# Altium integrated library Philips Discrete BJT - Low Power.IntLib: 311 symbols (part 4 of 5)
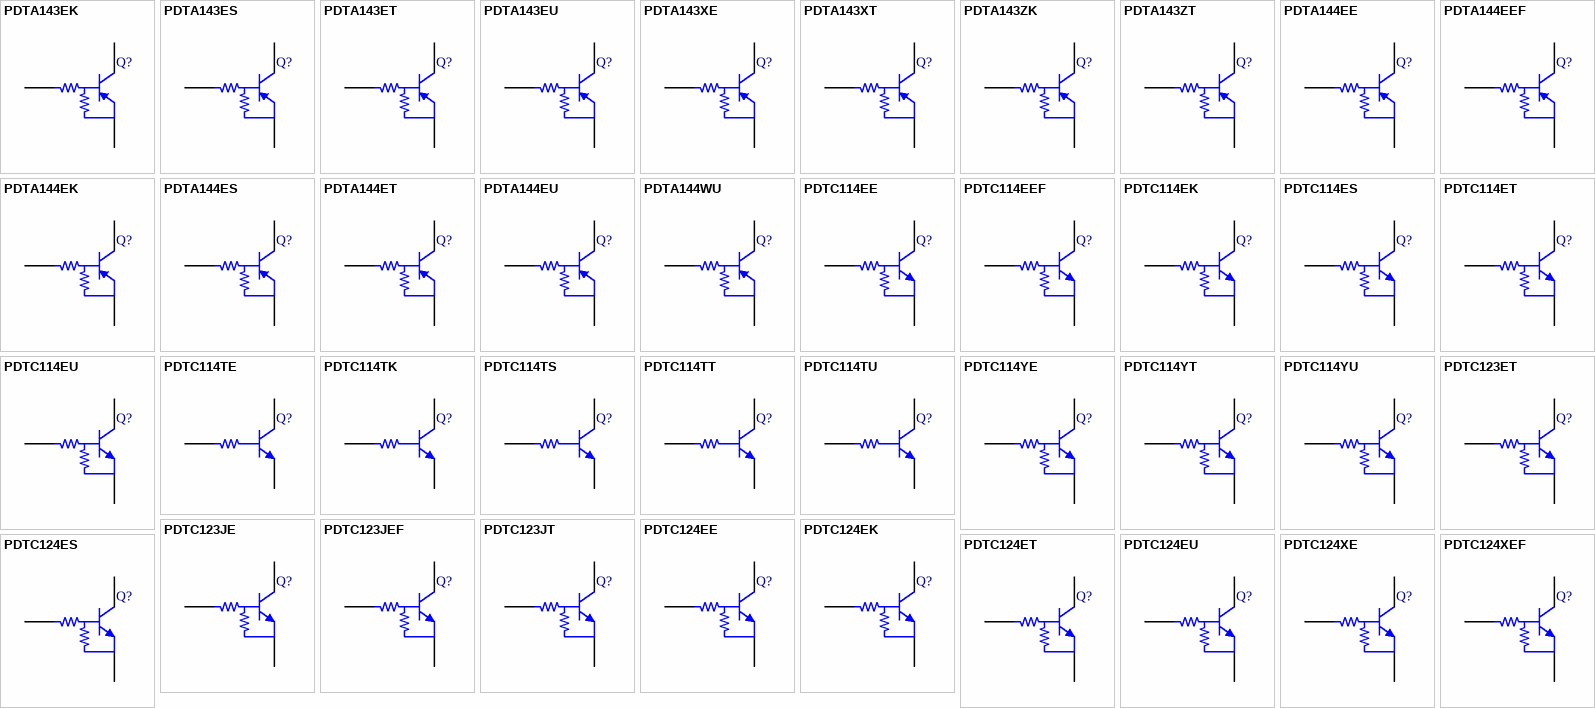
[diagram p11: symbols PDTA143EK to PDTC124XEF]

## PDTC114ET
designator Q?
NPN Resistor-equipped Transistor; Published: 17-Sep-2003; DatasheetVersion: 15-Apr-1999; PackageVersion: May-1999; PackageReference: SOT23; Publisher: Altium Limited; PackageDescription: SOT-23; 3 Leads; Body 3.0 x 2.5 mm, inc. leads (LxW max); ComponentLink1Description: Manufacturer Link; ComponentLink1URL: http://www.semiconductors.philips.com/; ComponentLink2Description: Datasheet; ComponentLink2URL: http://www.semiconductors.philips.com/acrobat/datasheets/PDTC114E_SERIES_10.pdf
footprint SOT23 (SOT-23; 3 Leads; Body 3.0 x 2.5 mm, inc. leads (LxW max))
simulation model PDTC114ET (SUBCKT)
signal-integrity model PDTC114ET
pins: 1 B, 2 E, 3 C

## PDTC114EU
designator Q?
NPN Resistor-equipped Transistor; Published: 17-Sep-2003; DatasheetVersion: 16-Apr-1999; PackageVersion: Apr-1999; PackageReference: SOT323; Publisher: Altium Limited; PackageDescription: SOT-323/SC-70; 3 Leads; Body 2.2 x 2.2 mm, inc. leads (LxW max); ComponentLink1Description: Manufacturer Link; ComponentLink1URL: http://www.semiconductors.philips.com/; ComponentLink2Description: Datasheet; ComponentLink2URL: http://www.semiconductors.philips.com/acrobat/datasheets/PDTC114E_SERIES_10.pdf
footprint SOT323 (SOT-323/SC-70; 3 Leads; Body 2.2 x 2.2 mm, inc. leads (LxW max))
signal-integrity model PDTC114EU
pins: 1 B, 2 E, 3 C

## PDTC114TE
designator Q?
NPN Resistor-equipped Transistor; Published: 17-Sep-2003; DatasheetVersion: 3-Aug-1998; PackageVersion: Apr-1999; PackageReference: SOT416; Publisher: Altium Limited; PackageDescription: SOT-416/SC-90/SC-75; 3 Leads; Body 1.8 x 1.8 mm, inc. leads (LxW max); ComponentLink1Description: Manufacturer Link; ComponentLink1URL: http://www.semiconductors.philips.com/; ComponentLink2Description: Datasheet; ComponentLink2URL: http://www.semiconductors.philips.com/acrobat/datasheets/PDTC114T_SER_7.pdf
footprint SOT416 (SOT-416/SC-90/SC-75; 3 Leads; Body 1.8 x 1.8 mm, inc. leads (LxW max))
simulation model PDTC114TE (SUBCKT)
signal-integrity model PDTC114TE
pins: 1 B, 2 E, 3 C

## PDTC114TK
designator Q?
NPN Resistor-equipped Transistor; Published: 17-Sep-2003; DatasheetVersion: 19-May-1998; PackageVersion: Apr-1999; PackageReference: SOT346; Publisher: Altium Limited; PackageDescription: SOT-23; 3 Leads; Body 3.1 x 3.0 mm, inc. leads (LxW max); Code_JEDEC: TO-236; ComponentLink1Description: Manufacturer Link; ComponentLink1URL: http://www.semiconductors.philips.com/; ComponentLink2Description: Datasheet; ComponentLink2URL: http://www.semiconductors.philips.com/acrobat/datasheets/PDTC114T_SER_7.pdf
footprint SOT346 (SOT-23; 3 Leads; Body 3.1 x 3.0 mm, inc. leads (LxW max))
simulation model PDTC114TK (SUBCKT)
signal-integrity model PDTC114TK
pins: 1 B, 2 E, 3 C

## PDTC114TS
designator Q?
NPN Resistor-equipped Transistor; Published: 17-Sep-2003; DatasheetVersion: 18-May-1998; PackageVersion: rev3, May-2000; PackageReference: SOT54; Publisher: Altium Limited; PackageDescription: TO, Flat Index; 3 In-Line, Axial Leads; Body Dia. 4.6mm; Leads 0.48 x 0.45 mm (max); Code_JEDEC: TO-92; ComponentLink1Description: Manufacturer Link; ComponentLink1URL: http://www.semiconductors.philips.com/; ComponentLink2Description: Datasheet; ComponentLink2URL: http://www.semiconductors.philips.com/acrobat/datasheets/PDTC114T_SER_7.pdf
footprint SOT54 (TO, Flat Index; 3 In-Line, Axial Leads; Body Dia. 4.6mm; Leads 0.48 x 0.45 mm (max))
simulation model PDTC114TS (SUBCKT)
signal-integrity model PDTC114TS
pins: 1 B, 2 C, 3 E

## PDTC114TT
designator Q?
NPN Resistor-equipped Transistor; Published: 17-Sep-2003; DatasheetVersion: 16-Apr-1999; PackageVersion: May-1999; PackageReference: SOT23; Publisher: Altium Limited; PackageDescription: SOT-23; 3 Leads; Body 3.0 x 2.5 mm, inc. leads (LxW max); ComponentLink1Description: Manufacturer Link; ComponentLink1URL: http://www.semiconductors.philips.com/; ComponentLink2Description: Datasheet; ComponentLink2URL: http://www.semiconductors.philips.com/acrobat/datasheets/PDTC114T_SER_7.pdf
footprint SOT23 (SOT-23; 3 Leads; Body 3.0 x 2.5 mm, inc. leads (LxW max))
simulation model PDTC114TT (SUBCKT)
signal-integrity model PDTC114TT
pins: 1 B, 2 E, 3 C

## PDTC114TU
designator Q?
NPN Resistor-equipped Transistor; Published: 17-Sep-2003; DatasheetVersion: 16-Apr-1999; PackageVersion: Apr-1999; PackageReference: SOT323; Publisher: Altium Limited; PackageDescription: SOT-323/SC-70; 3 Leads; Body 2.2 x 2.2 mm, inc. leads (LxW max); ComponentLink1Description: Manufacturer Link; ComponentLink1URL: http://www.semiconductors.philips.com/; ComponentLink2Description: Datasheet; ComponentLink2URL: http://www.semiconductors.philips.com/acrobat/datasheets/PDTC114T_SER_7.pdf
footprint SOT323 (SOT-323/SC-70; 3 Leads; Body 2.2 x 2.2 mm, inc. leads (LxW max))
simulation model PDTC114TU (SUBCKT)
signal-integrity model PDTC114TU
pins: 1 B, 2 E, 3 C

## PDTC114YE
designator Q?
NPN Resistor-equipped Transistor; Published: 17-Sep-2003; DatasheetVersion: 18-May-1999; PackageVersion: Apr-1999; PackageReference: SOT416; Publisher: Altium Limited; PackageDescription: SOT-416/SC-90/SC-75; 3 Leads; Body 1.8 x 1.8 mm, inc. leads (LxW max); ComponentLink1Description: Manufacturer Link; ComponentLink1URL: http://www.semiconductors.philips.com/; ComponentLink2Description: Datasheet; ComponentLink2URL: http://www.semiconductors.philips.com/acrobat/datasheets/PDTC114Y_SERIES_6.pdf
footprint SOT416 (SOT-416/SC-90/SC-75; 3 Leads; Body 1.8 x 1.8 mm, inc. leads (LxW max))
simulation model PDTC114YE (SUBCKT)
signal-integrity model PDTC114YE
pins: 1 B, 2 E, 3 C

## PDTC114YT
designator Q?
NPN Resistor-equipped Transistor; Published: 17-Sep-2003; DatasheetVersion: 21-May-1999; PackageVersion: May-1999; PackageReference: SOT23; Publisher: Altium Limited; PackageDescription: SOT-23; 3 Leads; Body 3.0 x 2.5 mm, inc. leads (LxW max); ComponentLink1Description: Manufacturer Link; ComponentLink1URL: http://www.semiconductors.philips.com/; ComponentLink2Description: Datasheet; ComponentLink2URL: http://www.semiconductors.philips.com/acrobat/datasheets/PDTC114Y_SERIES_6.pdf
footprint SOT23 (SOT-23; 3 Leads; Body 3.0 x 2.5 mm, inc. leads (LxW max))
simulation model PDTC114YT (SUBCKT)
signal-integrity model PDTC114YT
pins: 1 B, 2 E, 3 C

## PDTC114YU
designator Q?
NPN Resistor-equipped Transistor; Published: 17-Sep-2003; DatasheetVersion: 20-Apr-1999; PackageVersion: Apr-1999; PackageReference: SOT323; Publisher: Altium Limited; PackageDescription: SOT-323/SC-70; 3 Leads; Body 2.2 x 2.2 mm, inc. leads (LxW max); ComponentLink1Description: Manufacturer Link; ComponentLink1URL: http://www.semiconductors.philips.com/; ComponentLink2Description: Datasheet; ComponentLink2URL: http://www.semiconductors.philips.com/acrobat/datasheets/PDTC114Y_SERIES_6.pdf
footprint SOT323 (SOT-323/SC-70; 3 Leads; Body 2.2 x 2.2 mm, inc. leads (LxW max))
simulation model PDTC114YU (SUBCKT)
signal-integrity model PDTC114YU
pins: 1 B, 2 E, 3 C

## PDTC123ET
designator Q?
NPN Resistor-equipped Transistor; Published: 17-Sep-2003; DatasheetVersion: 21-May-1999; PackageVersion: May-1999; PackageReference: SOT23; Publisher: Altium Limited; PackageDescription: SOT-23; 3 Leads; Body 3.0 x 2.5 mm, inc. leads (LxW max); ComponentLink1Description: Manufacturer Link; ComponentLink1URL: http://www.semiconductors.philips.com/; ComponentLink2Description: Datasheet; ComponentLink2URL: http://www.semiconductors.philips.com/acrobat/datasheets/PDTC123E_SERIES_7.pdf
footprint SOT23 (SOT-23; 3 Leads; Body 3.0 x 2.5 mm, inc. leads (LxW max))
simulation model PDTC123ET (SUBCKT)
signal-integrity model PDTC123ET
pins: 1 B, 2 E, 3 C

## PDTC123JE
designator Q?
NPN Resistor-equipped Transistor; Published: 17-Sep-2003; DatasheetVersion: 21-May-1999; PackageVersion: Apr-1999; PackageReference: SOT416; Publisher: Altium Limited; PackageDescription: SOT-416/SC-90/SC-75; 3 Leads; Body 1.8 x 1.8 mm, inc. leads (LxW max); ComponentLink1Description: Manufacturer Link; ComponentLink1URL: http://www.semiconductors.philips.com/; ComponentLink2Description: Datasheet; ComponentLink2URL: http://www.semiconductors.philips.com/acrobat/datasheets/PDTC123J_SERIES_5.pdf
footprint SOT416 (SOT-416/SC-90/SC-75; 3 Leads; Body 1.8 x 1.8 mm, inc. leads (LxW max))
simulation model PDTC123JE (SUBCKT)
signal-integrity model PDTC123JE
pins: 1 B, 2 E, 3 C

## PDTC123JEF
designator Q?
NPN Resistor-equipped Transistor; Published: 17-Sep-2003; DatasheetVersion: 27-May-1999; PackageVersion: Oct-1998; PackageReference: SOT490; Publisher: Altium Limited; PackageDescription: SC-89; 3 Flat Leads; Body 1.6 x 1.6 x 0.7 mm, inc leads (LxWxH typ); ComponentLink1Description: Manufacturer Link; ComponentLink1URL: http://www.semiconductors.philips.com/; ComponentLink2Description: Datasheet; ComponentLink2URL: http://www.semiconductors.philips.com/acrobat/datasheets/PDTC123J_SERIES_5.pdf
footprint SOT490 (SC-89; 3 Flat Leads; Body 1.6 x 1.6 x 0.7 mm, inc leads (LxWxH typ))
simulation model PDTC123JEF (SUBCKT)
signal-integrity model PDTC123JEF
pins: 1 B, 2 E, 3 C

## PDTC123JT
designator Q?
NPN Resistor-equipped Transistor; Published: 17-Sep-2003; DatasheetVersion: 18-May-1999; PackageVersion: May-1999; PackageReference: SOT23; Publisher: Altium Limited; PackageDescription: SOT-23; 3 Leads; Body 3.0 x 2.5 mm, inc. leads (LxW max); ComponentLink1Description: Manufacturer Link; ComponentLink1URL: http://www.semiconductors.philips.com/; ComponentLink2Description: Datasheet; ComponentLink2URL: http://www.semiconductors.philips.com/acrobat/datasheets/PDTC123J_SERIES_5.pdf
footprint SOT23 (SOT-23; 3 Leads; Body 3.0 x 2.5 mm, inc. leads (LxW max))
simulation model PDTC123JT (SUBCKT)
signal-integrity model PDTC123JT
pins: 1 B, 2 E, 3 C

## PDTC124EE
designator Q?
NPN Resistor-equipped Transistor; Published: 17-Sep-2003; DatasheetVersion: 31-Jul-1998; PackageVersion: Apr-1999; PackageReference: SOT416; Publisher: Altium Limited; PackageDescription: SOT-416/SC-90/SC-75; 3 Leads; Body 1.8 x 1.8 mm, inc. leads (LxW max); ComponentLink1Description: Manufacturer Link; ComponentLink1URL: http://www.semiconductors.philips.com/; ComponentLink2Description: Datasheet; ComponentLink2URL: http://www.semiconductors.philips.com/acrobat/datasheets/PDTC124E_SERIES_7.pdf
footprint SOT416 (SOT-416/SC-90/SC-75; 3 Leads; Body 1.8 x 1.8 mm, inc. leads (LxW max))
simulation model PDTC124EE (SUBCKT)
signal-integrity model PDTC124EE
pins: 1 B, 2 E, 3 C

## PDTC124EK
designator Q?
NPN Resistor-equipped Transistor; Published: 17-Sep-2003; DatasheetVersion: 8-May-1998; PackageVersion: Apr-1999; PackageReference: SOT346; Publisher: Altium Limited; PackageDescription: SOT-23; 3 Leads; Body 3.1 x 3.0 mm, inc. leads (LxW max); Code_JEDEC: TO-236; ComponentLink1Description: Manufacturer Link; ComponentLink1URL: http://www.semiconductors.philips.com/; ComponentLink2Description: Datasheet; ComponentLink2URL: http://www.semiconductors.philips.com/acrobat/datasheets/PDTC124E_SERIES_7.pdf
footprint SOT346 (SOT-23; 3 Leads; Body 3.1 x 3.0 mm, inc. leads (LxW max))
signal-integrity model PDTC124EK
pins: 1 B, 2 E, 3 C

## PDTC124ES
designator Q?
NPN Resistor-equipped Transistor; Published: 17-Sep-2003; DatasheetVersion: 8-May-1998; PackageVersion: rev3, May-2000; PackageReference: SOT54; Publisher: Altium Limited; PackageDescription: TO, Flat Index; 3 In-Line, Axial Leads; Body Dia. 4.6mm; Leads 0.48 x 0.45 mm (max); Code_JEDEC: TO-92; ComponentLink1Description: Manufacturer Link; ComponentLink1URL: http://www.semiconductors.philips.com/; ComponentLink2Description: Datasheet; ComponentLink2URL: http://www.semiconductors.philips.com/acrobat/datasheets/PDTC124E_SERIES_7.pdf
footprint SOT54 (TO, Flat Index; 3 In-Line, Axial Leads; Body Dia. 4.6mm; Leads 0.48 x 0.45 mm (max))
simulation model PDTC124ES (SUBCKT)
signal-integrity model PDTC124ES
pins: 1 B, 2 C, 3 E

## PDTC124ET
designator Q?
NPN Resistor-equipped Transistor; Published: 17-Sep-2003; DatasheetVersion: 16-Apr-1999; PackageVersion: May-1999; PackageReference: SOT23; Publisher: Altium Limited; PackageDescription: SOT-23; 3 Leads; Body 3.0 x 2.5 mm, inc. leads (LxW max); ComponentLink1Description: Manufacturer Link; ComponentLink1URL: http://www.semiconductors.philips.com/; ComponentLink2Description: Datasheet; ComponentLink2URL: http://www.semiconductors.philips.com/acrobat/datasheets/PDTC124E_SERIES_7.pdf
footprint SOT23 (SOT-23; 3 Leads; Body 3.0 x 2.5 mm, inc. leads (LxW max))
simulation model PDTC124ET (SUBCKT)
signal-integrity model PDTC124ET
pins: 1 B, 2 E, 3 C

## PDTC124EU
designator Q?
NPN Resistor-equipped Transistor; Published: 17-Sep-2003; DatasheetVersion: 16-Apr-1999; PackageVersion: Apr-1999; PackageReference: SOT323; Publisher: Altium Limited; PackageDescription: SOT-323/SC-70; 3 Leads; Body 2.2 x 2.2 mm, inc. leads (LxW max); ComponentLink1Description: Manufacturer Link; ComponentLink1URL: http://www.semiconductors.philips.com/; ComponentLink2Description: Datasheet; ComponentLink2URL: http://www.semiconductors.philips.com/acrobat/datasheets/PDTC124E_SERIES_7.pdf
footprint SOT323 (SOT-323/SC-70; 3 Leads; Body 2.2 x 2.2 mm, inc. leads (LxW max))
signal-integrity model PDTC124EU
pins: 1 B, 2 E, 3 C

## PDTC124XE
designator Q?
NPN Resistor-equipped Transistor; Published: 17-Sep-2003; DatasheetVersion: 18-May-1999; PackageVersion: Apr-1999; PackageReference: SOT416; Publisher: Altium Limited; PackageDescription: SOT-416/SC-90/SC-75; 3 Leads; Body 1.8 x 1.8 mm, inc. leads (LxW max); ComponentLink1Description: Manufacturer Link; ComponentLink1URL: http://www.semiconductors.philips.com/; ComponentLink2Description: Datasheet; ComponentLink2URL: http://www.semiconductors.philips.com/acrobat/datasheets/PDTC124X_SERIES_5.pdf
footprint SOT416 (SOT-416/SC-90/SC-75; 3 Leads; Body 1.8 x 1.8 mm, inc. leads (LxW max))
simulation model PDTC124XE (SUBCKT)
signal-integrity model PDTC124XE
pins: 1 B, 2 E, 3 C

## PDTC124XEF
designator Q?
NPN Resistor-equipped Transistor; Published: 17-Sep-2003; DatasheetVersion: 18-May-1999; PackageVersion: Oct-1998; PackageReference: SOT490; Publisher: Altium Limited; PackageDescription: SC-89; 3 Flat Leads; Body 1.6 x 1.6 x 0.7 mm, inc leads (LxWxH typ); ComponentLink1Description: Manufacturer Link; ComponentLink1URL: http://www.semiconductors.philips.com/; ComponentLink2Description: Datasheet; ComponentLink2URL: http://www.semiconductors.philips.com/acrobat/datasheets/PDTC124X_SERIES_5.pdf
footprint SOT490 (SC-89; 3 Flat Leads; Body 1.6 x 1.6 x 0.7 mm, inc leads (LxWxH typ))
simulation model PDTC124XEF (SUBCKT)
signal-integrity model PDTC124XEF
pins: 1 B, 2 E, 3 C

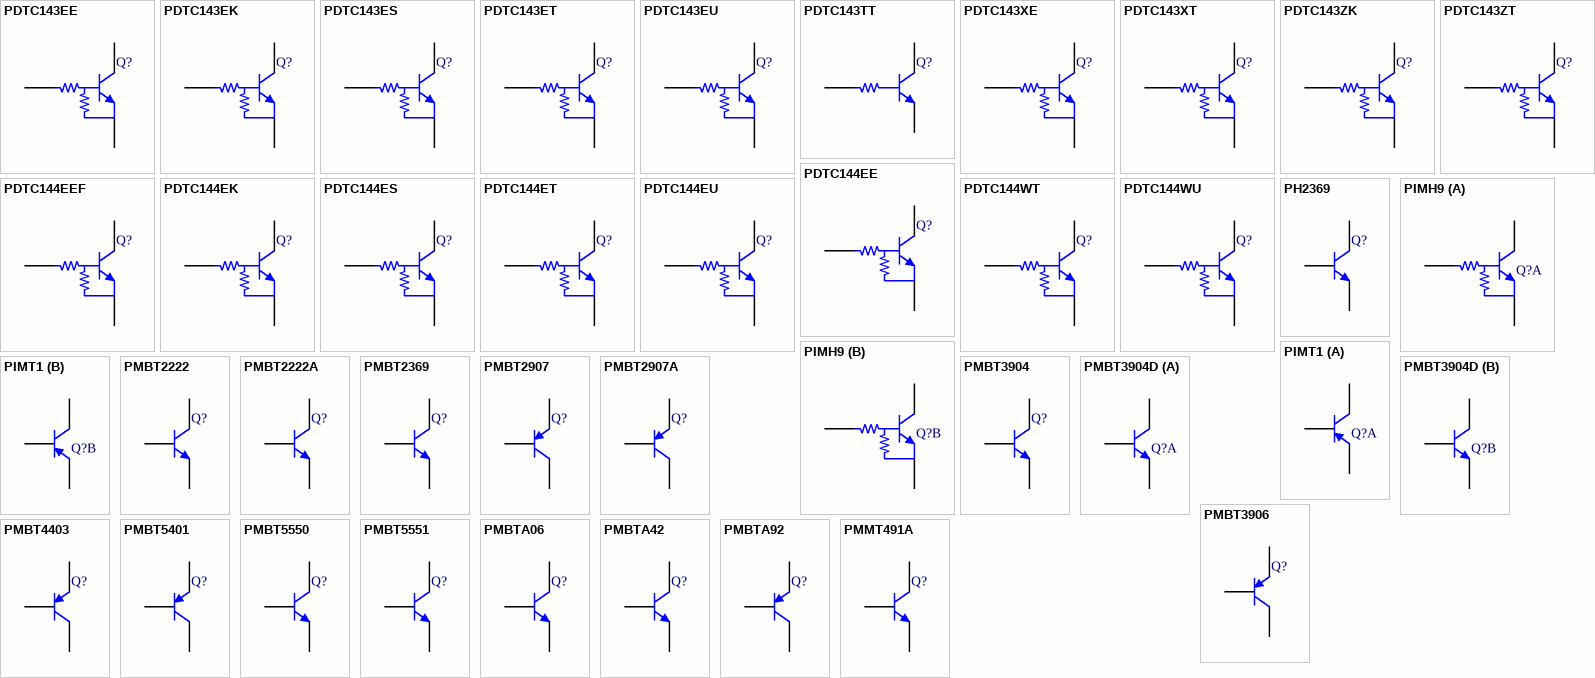
[diagram p6: symbols PDTC143EE to PMMT491A]

## PDTC143EE
designator Q?
NPN Resistor-equipped Transistor; Published: 17-Sep-2003; DatasheetVersion: 31-Jul-1998; PackageVersion: Apr-1999; PackageReference: SOT416; Publisher: Altium Limited; PackageDescription: SOT-416/SC-90/SC-75; 3 Leads; Body 1.8 x 1.8 mm, inc. leads (LxW max); ComponentLink1Description: Manufacturer Link; ComponentLink1URL: http://www.semiconductors.philips.com/; ComponentLink2Description: Datasheet; ComponentLink2URL: http://www.semiconductors.philips.com/acrobat/datasheets/PDTC143E_SERIES_9.pdf
footprint SOT416 (SOT-416/SC-90/SC-75; 3 Leads; Body 1.8 x 1.8 mm, inc. leads (LxW max))
simulation model PDTC143EE (SUBCKT)
signal-integrity model PDTC143EE
pins: 1 B, 2 E, 3 C

## PDTC143EK
designator Q?
NPN Resistor-equipped Transistor; Published: 17-Sep-2003; DatasheetVersion: 18-May-1998; PackageVersion: Apr-1999; PackageReference: SOT346; Publisher: Altium Limited; PackageDescription: SOT-23; 3 Leads; Body 3.1 x 3.0 mm, inc. leads (LxW max); Code_JEDEC: TO-236; ComponentLink1Description: Manufacturer Link; ComponentLink1URL: http://www.semiconductors.philips.com/; ComponentLink2Description: Datasheet; ComponentLink2URL: http://www.semiconductors.philips.com/acrobat/datasheets/PDTC143E_SERIES_9.pdf
footprint SOT346 (SOT-23; 3 Leads; Body 3.1 x 3.0 mm, inc. leads (LxW max))
simulation model PDTC143EK (SUBCKT)
signal-integrity model PDTC143EK
pins: 1 B, 2 E, 3 C

## PDTC143ES
designator Q?
NPN Resistor-equipped Transistor; Published: 17-Sep-2003; DatasheetVersion: 20-May-1998; PackageVersion: rev3, May-2000; PackageReference: SOT54; Publisher: Altium Limited; PackageDescription: TO, Flat Index; 3 In-Line, Axial Leads; Body Dia. 4.6mm; Leads 0.48 x 0.45 mm (max); Code_JEDEC: TO-92; ComponentLink1Description: Manufacturer Link; ComponentLink1URL: http://www.semiconductors.philips.com/; ComponentLink2Description: Datasheet; ComponentLink2URL: http://www.semiconductors.philips.com/acrobat/datasheets/PDTC143E_SERIES_9.pdf
footprint SOT54 (TO, Flat Index; 3 In-Line, Axial Leads; Body Dia. 4.6mm; Leads 0.48 x 0.45 mm (max))
simulation model PDTC143ES (SUBCKT)
signal-integrity model PDTC143ES
pins: 1 B, 2 C, 3 E

## PDTC143ET
designator Q?
NPN Resistor-equipped Transistor; Published: 17-Sep-2003; DatasheetVersion: 15-Apr-1999; PackageVersion: May-1999; PackageReference: SOT23; Publisher: Altium Limited; PackageDescription: SOT-23; 3 Leads; Body 3.0 x 2.5 mm, inc. leads (LxW max); ComponentLink1Description: Manufacturer Link; ComponentLink1URL: http://www.semiconductors.philips.com/; ComponentLink2Description: Datasheet; ComponentLink2URL: http://www.semiconductors.philips.com/acrobat/datasheets/PDTC143E_SERIES_9.pdf
footprint SOT23 (SOT-23; 3 Leads; Body 3.0 x 2.5 mm, inc. leads (LxW max))
simulation model PDTC143ET (SUBCKT)
signal-integrity model PDTC143ET
pins: 1 B, 2 E, 3 C

## PDTC143EU
designator Q?
NPN Resistor-equipped Transistor; Published: 17-Sep-2003; DatasheetVersion: 14-Apr-1999; PackageVersion: Apr-1999; PackageReference: SOT323; Publisher: Altium Limited; PackageDescription: SOT-323/SC-70; 3 Leads; Body 2.2 x 2.2 mm, inc. leads (LxW max); ComponentLink1Description: Manufacturer Link; ComponentLink1URL: http://www.semiconductors.philips.com/; ComponentLink2Description: Datasheet; ComponentLink2URL: http://www.semiconductors.philips.com/acrobat/datasheets/PDTC143E_SERIES_9.pdf
footprint SOT323 (SOT-323/SC-70; 3 Leads; Body 2.2 x 2.2 mm, inc. leads (LxW max))
simulation model PDTC143EU (SUBCKT)
signal-integrity model PDTC143EU
pins: 1 B, 2 E, 3 C

## PDTC143TT
designator Q?
NPN Resistor-equipped Transistor; Published: 17-Sep-2003; DatasheetVersion: 21-May-1999; PackageVersion: May-1999; PackageReference: SOT23; Publisher: Altium Limited; PackageDescription: SOT-23; 3 Leads; Body 3.0 x 2.5 mm, inc. leads (LxW max); ComponentLink1Description: Manufacturer Link; ComponentLink1URL: http://www.semiconductors.philips.com/; ComponentLink2Description: Datasheet; ComponentLink2URL: http://www.semiconductors.philips.com/acrobat/datasheets/PDTC143T_SERIES_6.pdf
footprint SOT23 (SOT-23; 3 Leads; Body 3.0 x 2.5 mm, inc. leads (LxW max))
simulation model PDTC143TT (SUBCKT)
signal-integrity model PDTC143TT
pins: 1 B, 2 E, 3 C

## PDTC143XE
designator Q?
NPN Resistor-equipped Transistor; Published: 17-Sep-2003; DatasheetVersion: 21-May-1999; PackageVersion: Apr-1999; PackageReference: SOT416; Publisher: Altium Limited; PackageDescription: SOT-416/SC-90/SC-75; 3 Leads; Body 1.8 x 1.8 mm, inc. leads (LxW max); ComponentLink1Description: Manufacturer Link; ComponentLink1URL: http://www.semiconductors.philips.com/; ComponentLink2Description: Datasheet; ComponentLink2URL: http://www.semiconductors.philips.com/acrobat/datasheets/PDTC143X_SERIES_8.pdf
footprint SOT416 (SOT-416/SC-90/SC-75; 3 Leads; Body 1.8 x 1.8 mm, inc. leads (LxW max))
simulation model PDTC143XE (SUBCKT)
signal-integrity model PDTC143XE
pins: 1 B, 2 E, 3 C

## PDTC143XT
designator Q?
NPN Resistor-equipped Transistor; Published: 17-Sep-2003; DatasheetVersion: 20-Apr-1999; PackageVersion: May-1999; PackageReference: SOT23; Publisher: Altium Limited; PackageDescription: SOT-23; 3 Leads; Body 3.0 x 2.5 mm, inc. leads (LxW max); ComponentLink1Description: Manufacturer Link; ComponentLink1URL: http://www.semiconductors.philips.com/; ComponentLink2Description: Datasheet; ComponentLink2URL: http://www.semiconductors.philips.com/acrobat/datasheets/PDTC143X_SERIES_8.pdf
footprint SOT23 (SOT-23; 3 Leads; Body 3.0 x 2.5 mm, inc. leads (LxW max))
simulation model PDTC143XT (SUBCKT)
signal-integrity model PDTC143XT
pins: 1 B, 2 E, 3 C

## PDTC143ZK
designator Q?
NPN Resistor-equipped Transistor; Published: 17-Sep-2003; DatasheetVersion: 21-May-1999; PackageVersion: Apr-1999; PackageReference: SOT346; Publisher: Altium Limited; PackageDescription: SOT-23; 3 Leads; Body 3.1 x 3.0 mm, inc. leads (LxW max); Code_JEDEC: TO-236; ComponentLink1Description: Manufacturer Link; ComponentLink1URL: http://www.semiconductors.philips.com/; ComponentLink2Description: Datasheet; ComponentLink2URL: http://www.semiconductors.philips.com/acrobat/datasheets/PDTC143Z_SERIES_7.pdf
footprint SOT346 (SOT-23; 3 Leads; Body 3.1 x 3.0 mm, inc. leads (LxW max))
simulation model PDTC143ZK (SUBCKT)
signal-integrity model PDTC143ZK
pins: 1 B, 2 E, 3 C

## PDTC143ZT
designator Q?
NPN Resistor-equipped Transistor; Published: 17-Sep-2003; DatasheetVersion: 21-May-1999; PackageVersion: May-1999; PackageReference: SOT23; Publisher: Altium Limited; PackageDescription: SOT-23; 3 Leads; Body 3.0 x 2.5 mm, inc. leads (LxW max); ComponentLink1Description: Manufacturer Link; ComponentLink1URL: http://www.semiconductors.philips.com/; ComponentLink2Description: Datasheet; ComponentLink2URL: http://www.semiconductors.philips.com/acrobat/datasheets/PDTC143Z_SERIES_7.pdf
footprint SOT23 (SOT-23; 3 Leads; Body 3.0 x 2.5 mm, inc. leads (LxW max))
simulation model PDTC143ZT (SUBCKT)
signal-integrity model PDTC143ZT
pins: 1 B, 2 E, 3 C

## PDTC144EE
designator Q?
NPN Resistor-equipped Transistor; Published: 17-Sep-2003; DatasheetVersion: 16-Jul-1998; PackageVersion: Apr-1999; PackageReference: SOT416; Publisher: Altium Limited; PackageDescription: SOT-416/SC-90/SC-75; 3 Leads; Body 1.8 x 1.8 mm, inc. leads (LxW max); ComponentLink1Description: Manufacturer Link; ComponentLink1URL: http://www.semiconductors.philips.com/; ComponentLink2Description: Datasheet; ComponentLink2URL: http://www.semiconductors.philips.com/acrobat/datasheets/PDTC144E_SERIES_8.pdf
footprint SOT416 (SOT-416/SC-90/SC-75; 3 Leads; Body 1.8 x 1.8 mm, inc. leads (LxW max))
simulation model PDTC144EE (SUBCKT)
signal-integrity model PDTC144EE
pins: 1 B, 2 E, 3 C

## PDTC144EEF
designator Q?
NPN Resistor-equipped Transistor; Published: 17-Sep-2003; DatasheetVersion: 27-May-1999; PackageVersion: Oct-1998; PackageReference: SOT490; Publisher: Altium Limited; PackageDescription: SC-89; 3 Flat Leads; Body 1.6 x 1.6 x 0.7 mm, inc leads (LxWxH typ); ComponentLink1Description: Manufacturer Link; ComponentLink1URL: http://www.semiconductors.philips.com/; ComponentLink2Description: Datasheet; ComponentLink2URL: http://www.semiconductors.philips.com/acrobat/datasheets/PDTC144E_SERIES_8.pdf
footprint SOT490 (SC-89; 3 Flat Leads; Body 1.6 x 1.6 x 0.7 mm, inc leads (LxWxH typ))
simulation model PDTC144EEF (SUBCKT)
signal-integrity model PDTC144EEF
pins: 1 B, 2 E, 3 C

## PDTC144EK
designator Q?
NPN Resistor-equipped Transistor; Published: 17-Sep-2003; DatasheetVersion: 19-May-1998; PackageVersion: Apr-1999; PackageReference: SOT346; Publisher: Altium Limited; PackageDescription: SOT-23; 3 Leads; Body 3.1 x 3.0 mm, inc. leads (LxW max); Code_JEDEC: TO-236; ComponentLink1Description: Manufacturer Link; ComponentLink1URL: http://www.semiconductors.philips.com/; ComponentLink2Description: Datasheet; ComponentLink2URL: http://www.semiconductors.philips.com/acrobat/datasheets/PDTC144E_SERIES_8.pdf
footprint SOT346 (SOT-23; 3 Leads; Body 3.1 x 3.0 mm, inc. leads (LxW max))
simulation model PDTC144EK (SUBCKT)
signal-integrity model PDTC144EK
pins: 1 B, 2 E, 3 C

## PDTC144ES
designator Q?
NPN Resistor-equipped Transistor; Published: 17-Sep-2003; DatasheetVersion: 19-May-1998; PackageVersion: rev3, May-2000; PackageReference: SOT54; Publisher: Altium Limited; PackageDescription: TO, Flat Index; 3 In-Line, Axial Leads; Body Dia. 4.6mm; Leads 0.48 x 0.45 mm (max); Code_JEDEC: TO-92; ComponentLink1Description: Manufacturer Link; ComponentLink1URL: http://www.semiconductors.philips.com/; ComponentLink2Description: Datasheet; ComponentLink2URL: http://www.semiconductors.philips.com/acrobat/datasheets/PDTC144E_SERIES_8.pdf
footprint SOT54 (TO, Flat Index; 3 In-Line, Axial Leads; Body Dia. 4.6mm; Leads 0.48 x 0.45 mm (max))
simulation model PDTC144ES (SUBCKT)
signal-integrity model PDTC144ES
pins: 1 B, 2 C, 3 E

## PDTC144ET
designator Q?
NPN Resistor-equipped Transistor; Published: 17-Sep-2003; DatasheetVersion: 16-Apr-1999; PackageVersion: May-1999; PackageReference: SOT23; Publisher: Altium Limited; PackageDescription: SOT-23; 3 Leads; Body 3.0 x 2.5 mm, inc. leads (LxW max); ComponentLink1Description: Manufacturer Link; ComponentLink1URL: http://www.semiconductors.philips.com/; ComponentLink2Description: Datasheet; ComponentLink2URL: http://www.semiconductors.philips.com/acrobat/datasheets/PDTC144E_SERIES_8.pdf
footprint SOT23 (SOT-23; 3 Leads; Body 3.0 x 2.5 mm, inc. leads (LxW max))
simulation model PDTC144ET (SUBCKT)
signal-integrity model PDTC144ET
pins: 1 B, 2 E, 3 C

## PDTC144EU
designator Q?
NPN Resistor-equipped Transistor; Published: 17-Sep-2003; DatasheetVersion: 16-Apr-1999; PackageVersion: Apr-1999; PackageReference: SOT323; Publisher: Altium Limited; PackageDescription: SOT-323/SC-70; 3 Leads; Body 2.2 x 2.2 mm, inc. leads (LxW max); ComponentLink1Description: Manufacturer Link; ComponentLink1URL: http://www.semiconductors.philips.com/; ComponentLink2Description: Datasheet; ComponentLink2URL: http://www.semiconductors.philips.com/acrobat/datasheets/PDTC144E_SERIES_8.pdf
footprint SOT323 (SOT-323/SC-70; 3 Leads; Body 2.2 x 2.2 mm, inc. leads (LxW max))
simulation model PDTC144EU (SUBCKT)
signal-integrity model PDTC144EU
pins: 1 B, 2 E, 3 C

## PDTC144WT
designator Q?
NPN Resistor-equipped Transistor; Published: 17-Sep-2003; DatasheetVersion: 25-May-1999; PackageVersion: May-1999; PackageReference: SOT23; Publisher: Altium Limited; PackageDescription: SOT-23; 3 Leads; Body 3.0 x 2.5 mm, inc. leads (LxW max); ComponentLink1Description: Manufacturer Link; ComponentLink1URL: http://www.semiconductors.philips.com/; ComponentLink2Description: Datasheet; ComponentLink2URL: http://www.semiconductors.philips.com/acrobat/datasheets/PDTC144W_SERIES_7.pdf
footprint SOT23 (SOT-23; 3 Leads; Body 3.0 x 2.5 mm, inc. leads (LxW max))
simulation model PDTC144WT (SUBCKT)
signal-integrity model PDTC144WT
pins: 1 B, 2 E, 3 C

## PDTC144WU
designator Q?
NPN Resistor-equipped Transistor; Published: 17-Sep-2003; DatasheetVersion: 25-May-1999; PackageVersion: Apr-1999; PackageReference: SOT323; Publisher: Altium Limited; PackageDescription: SOT-323/SC-70; 3 Leads; Body 2.2 x 2.2 mm, inc. leads (LxW max); ComponentLink1Description: Manufacturer Link; ComponentLink1URL: http://www.semiconductors.philips.com/; ComponentLink2Description: Datasheet; ComponentLink2URL: http://www.semiconductors.philips.com/acrobat/datasheets/PDTC144W_SERIES_7.pdf
footprint SOT323 (SOT-323/SC-70; 3 Leads; Body 2.2 x 2.2 mm, inc. leads (LxW max))
simulation model PDTC144WU (SUBCKT)
signal-integrity model PDTC144WU
pins: 1 B, 2 E, 3 C

## PH2369
designator Q?
NPN Switching Transistor; Published: 17-Sep-2003; DatasheetVersion: 27-Apr-1999; PackageVersion: rev3, May-2000; PackageReference: SOT54; Publisher: Altium Limited; PackageDescription: TO, Flat Index; 3 In-Line, Axial Leads; Body Dia. 4.6mm; Leads 0.48 x 0.45 mm (max); Code_JEDEC: TO-92; ComponentLink1Description: Manufacturer Link; ComponentLink1URL: http://www.semiconductors.philips.com/; ComponentLink2Description: Datasheet; ComponentLink2URL: http://www.semiconductors.philips.com/acrobat/datasheets/PH2369_4.pdf
footprint SOT54 (TO, Flat Index; 3 In-Line, Axial Leads; Body Dia. 4.6mm; Leads 0.48 x 0.45 mm (max))
simulation model PH2369 (SUBCKT)
signal-integrity model PH2369
pins: 1 E, 2 B, 3 C

## PIMH9
designator Q?
NPN Resistor-equipped Double Transistor; R1 = 10kOhm, R2 = 47kOhm; Published: 17-Sep-2003; DatasheetVersion: 13-Sep-2001; PackageVersion: May-2001; PackageReference: SOT457; Publisher: Altium Limited; PackageDescription: SOT-457/SC-74; 6 Leads; Body 3.1 x 3 mm, inc. leads (LxW max); ComponentLink1Description: Manufacturer Link; ComponentLink1URL: http://www.semiconductors.philips.com/; ComponentLink2Description: Datasheet; ComponentLink2URL: http://www.semiconductors.philips.com/acrobat/datasheets/PIMH9_PUMH9_PEMH9_4.pdf
footprint SOT457 (SOT-457/SC-74; 6 Leads; Body 3.1 x 3 mm, inc. leads (LxW max))
signal-integrity model PIMH9
part A pins: 1 E, 2 B, 6 C
part B pins: 3 C, 4 E, 5 B

## PIMT1
designator Q?
PNP General-purpose Double Transistor; Published: 17-Sep-2003; DatasheetVersion: 22-Oct-2001; PackageVersion: May-2001; PackageReference: SOT457; Publisher: Altium Limited; PackageDescription: SOT-457/SC-74; 6 Leads; Body 3.1 x 3 mm, inc. leads (LxW max); ComponentLink1Description: Manufacturer Link; ComponentLink1URL: http://www.semiconductors.philips.com/; ComponentLink2Description: Datasheet; ComponentLink2URL: http://www.semiconductors.philips.com/acrobat/datasheets/PIMT1_1.pdf
footprint SOT457 (SOT-457/SC-74; 6 Leads; Body 3.1 x 3 mm, inc. leads (LxW max))
simulation model PIMT1 (PNP)
signal-integrity model PIMT1
part A pins: 1 E, 2 B, 6 C
part B pins: 3 C, 4 E, 5 B

## PMBT2222
designator Q?
NPN Switching Transistor; Published: 17-Sep-2003; DatasheetVersion: 27-Apr-1999; PackageVersion: May-1999; PackageReference: SOT23; Publisher: Altium Limited; PackageDescription: SOT-23; 3 Leads; Body 3.0 x 2.5 mm, inc. leads (LxW max); ComponentLink1Description: Manufacturer Link; ComponentLink1URL: http://www.semiconductors.philips.com/; ComponentLink2Description: Datasheet; ComponentLink2URL: http://www.semiconductors.philips.com/acrobat/datasheets/PMBT2222_2222A_5.pdf
footprint SOT23 (SOT-23; 3 Leads; Body 3.0 x 2.5 mm, inc. leads (LxW max))
simulation model QPMBT2222 (NPN)
signal-integrity model PMBT2222
pins: 1 B, 2 E, 3 C

## PMBT2222A
designator Q?
NPN Switching Transistor; Published: 17-Sep-2003; DatasheetVersion: 27-Apr-1999; PackageVersion: May-1999; PackageReference: SOT23; Publisher: Altium Limited; PackageDescription: SOT-23; 3 Leads; Body 3.0 x 2.5 mm, inc. leads (LxW max); ComponentLink1Description: Manufacturer Link; ComponentLink1URL: http://www.semiconductors.philips.com/; ComponentLink2Description: Datasheet; ComponentLink2URL: http://www.semiconductors.philips.com/acrobat/datasheets/PMBT2222_2222A_5.pdf
footprint SOT23 (SOT-23; 3 Leads; Body 3.0 x 2.5 mm, inc. leads (LxW max))
simulation model QPMBT2222A (NPN)
signal-integrity model PMBT2222A
pins: 1 B, 2 E, 3 C

## PMBT2369
designator Q?
NPN Switching Transistor; Published: 17-Sep-2003; DatasheetVersion: 27-Apr-1999; PackageVersion: May-1999; PackageReference: SOT23; Publisher: Altium Limited; PackageDescription: SOT-23; 3 Leads; Body 3.0 x 2.5 mm, inc. leads (LxW max); ComponentLink1Description: Manufacturer Link; ComponentLink1URL: http://www.semiconductors.philips.com/; ComponentLink2Description: Datasheet; ComponentLink2URL: http://www.semiconductors.philips.com/acrobat/datasheets/PMBT2369_4.pdf
footprint SOT23 (SOT-23; 3 Leads; Body 3.0 x 2.5 mm, inc. leads (LxW max))
simulation model PMBT2369 (SUBCKT)
signal-integrity model PMBT2369
pins: 1 B, 2 E, 3 C

## PMBT2907
designator Q?
PNP Switching Transistor; Published: 17-Sep-2003; DatasheetVersion: 27-Apr-1999; PackageVersion: May-1999; PackageReference: SOT23; Publisher: Altium Limited; PackageDescription: SOT-23; 3 Leads; Body 3.0 x 2.5 mm, inc. leads (LxW max); ComponentLink1Description: Manufacturer Link; ComponentLink1URL: http://www.semiconductors.philips.com/; ComponentLink2Description: Datasheet; ComponentLink2URL: http://www.semiconductors.philips.com/acrobat/datasheets/PMBT2907_PMBT2907A_5.pdf
footprint SOT23 (SOT-23; 3 Leads; Body 3.0 x 2.5 mm, inc. leads (LxW max))
simulation model QPMBT2907 (PNP)
signal-integrity model PMBT2907
pins: 1 B, 2 E, 3 C

## PMBT2907A
designator Q?
PNP Switching Transistor; Published: 17-Sep-2003; DatasheetVersion: 27-Apr-1999; PackageVersion: May-1999; PackageReference: SOT23; Publisher: Altium Limited; PackageDescription: SOT-23; 3 Leads; Body 3.0 x 2.5 mm, inc. leads (LxW max); ComponentLink1Description: Manufacturer Link; ComponentLink1URL: http://www.semiconductors.philips.com/; ComponentLink2Description: Datasheet; ComponentLink2URL: http://www.semiconductors.philips.com/acrobat/datasheets/PMBT2907_PMBT2907A_5.pdf
footprint SOT23 (SOT-23; 3 Leads; Body 3.0 x 2.5 mm, inc. leads (LxW max))
simulation model QPMBT2907A (PNP)
signal-integrity model PMBT2907A
pins: 1 B, 2 E, 3 C

## PMBT3904
designator Q?
NPN Switching Transistor; Published: 17-Sep-2003; DatasheetVersion: 27-Apr-1999; PackageVersion: May-1999; PackageReference: SOT23; Publisher: Altium Limited; PackageDescription: SOT-23; 3 Leads; Body 3.0 x 2.5 mm, inc. leads (LxW max); ComponentLink1Description: Manufacturer Link; ComponentLink1URL: http://www.semiconductors.philips.com/; ComponentLink2Description: Datasheet; ComponentLink2URL: http://www.semiconductors.philips.com/acrobat/datasheets/PMBT3904_4.pdf
footprint SOT23 (SOT-23; 3 Leads; Body 3.0 x 2.5 mm, inc. leads (LxW max))
simulation model QPMBT3904 (NPN)
signal-integrity model PMBT3904
pins: 1 B, 2 E, 3 C

## PMBT3904D
designator Q?
NPN Switching Double Transistor; Published: 17-Sep-2003; DatasheetVersion: 15-Dec-1999; PackageVersion: May-2001; PackageReference: SOT457; Publisher: Altium Limited; PackageDescription: SOT-457/SC-74; 6 Leads; Body 3.1 x 3 mm, inc. leads (LxW max); ComponentLink1Description: Manufacturer Link; ComponentLink1URL: http://www.semiconductors.philips.com/; ComponentLink2Description: Datasheet; ComponentLink2URL: http://www.semiconductors.philips.com/acrobat/datasheets/PMBT3904D_1.pdf
footprint SOT457 (SOT-457/SC-74; 6 Leads; Body 3.1 x 3 mm, inc. leads (LxW max))
simulation model PMBT3904D (NPN)
signal-integrity model PMBT3904D
part A pins: 1 E, 2 B, 6 C
part B pins: 3 C, 4 E, 5 B

## PMBT3906
designator Q?
PNP Switching Transistor; Published: 17-Sep-2003; DatasheetVersion: 27-Apr-1999; PackageVersion: May-1999; PackageReference: SOT23; Publisher: Altium Limited; PackageDescription: SOT-23; 3 Leads; Body 3.0 x 2.5 mm, inc. leads (LxW max); ComponentLink1Description: Manufacturer Link; ComponentLink1URL: http://www.semiconductors.philips.com/; ComponentLink2Description: Datasheet; ComponentLink2URL: http://www.semiconductors.philips.com/acrobat/datasheets/PMBT3906_4.pdf
footprint SOT23 (SOT-23; 3 Leads; Body 3.0 x 2.5 mm, inc. leads (LxW max))
simulation model QPMBT3906 (PNP)
signal-integrity model PMBT3906
pins: 1 B, 2 E, 3 C

## PMBT4403
designator Q?
PNP Switching Transistor; Published: 17-Sep-2003; DatasheetVersion: 15-Apr-1999; PackageVersion: May-1999; PackageReference: SOT23; Publisher: Altium Limited; PackageDescription: SOT-23; 3 Leads; Body 3.0 x 2.5 mm, inc. leads (LxW max); ComponentLink1Description: Manufacturer Link; ComponentLink1URL: http://www.semiconductors.philips.com/; ComponentLink2Description: Datasheet; ComponentLink2URL: http://www.semiconductors.philips.com/acrobat/datasheets/PMBT4403_4.pdf
footprint SOT23 (SOT-23; 3 Leads; Body 3.0 x 2.5 mm, inc. leads (LxW max))
simulation model QPMBT4403 (PNP)
signal-integrity model PMBT4403
pins: 1 B, 2 E, 3 C

## PMBT5401
designator Q?
PNP High-voltage Transistor; Published: 17-Sep-2003; DatasheetVersion: 15-Apr-1999; PackageVersion: May-1999; PackageReference: SOT23; Publisher: Altium Limited; PackageDescription: SOT-23; 3 Leads; Body 3.0 x 2.5 mm, inc. leads (LxW max); ComponentLink1Description: Manufacturer Link; ComponentLink1URL: http://www.semiconductors.philips.com/; ComponentLink2Description: Datasheet; ComponentLink2URL: http://www.semiconductors.philips.com/acrobat/datasheets/PMBT5401_4.pdf
footprint SOT23 (SOT-23; 3 Leads; Body 3.0 x 2.5 mm, inc. leads (LxW max))
simulation model QPMBT5401 (PNP)
signal-integrity model PMBT5401
pins: 1 B, 2 E, 3 C

## PMBT5550
designator Q?
NPN High-voltage Transistor; Published: 17-Sep-2003; DatasheetVersion: 15-Apr-1999; PackageVersion: May-1999; PackageReference: SOT23; Publisher: Altium Limited; PackageDescription: SOT-23; 3 Leads; Body 3.0 x 2.5 mm, inc. leads (LxW max); ComponentLink1Description: Manufacturer Link; ComponentLink1URL: http://www.semiconductors.philips.com/; ComponentLink2Description: Datasheet; ComponentLink2URL: http://www.semiconductors.philips.com/acrobat/datasheets/PMBT5550_4.pdf
footprint SOT23 (SOT-23; 3 Leads; Body 3.0 x 2.5 mm, inc. leads (LxW max))
simulation model QPMBT5550 (NPN)
signal-integrity model PMBT5550
pins: 1 B, 2 E, 3 C

## PMBT5551
designator Q?
NPN High-voltage Transistor; Published: 17-Sep-2003; DatasheetVersion: 15-Apr-1999; PackageVersion: May-1999; PackageReference: SOT23; Publisher: Altium Limited; PackageDescription: SOT-23; 3 Leads; Body 3.0 x 2.5 mm, inc. leads (LxW max); ComponentLink1Description: Manufacturer Link; ComponentLink1URL: http://www.semiconductors.philips.com/; ComponentLink2Description: Datasheet; ComponentLink2URL: http://www.semiconductors.philips.com/acrobat/datasheets/PMBT5551_4.pdf
footprint SOT23 (SOT-23; 3 Leads; Body 3.0 x 2.5 mm, inc. leads (LxW max))
simulation model QPMBT5551 (NPN)
signal-integrity model PMBT5551
pins: 1 B, 2 E, 3 C

## PMBTA06
designator Q?
NPN General-purpose Transistor; Published: 17-Sep-2003; DatasheetVersion: 29-Apr-1999; PackageVersion: May-1999; PackageReference: SOT23; Publisher: Altium Limited; PackageDescription: SOT-23; 3 Leads; Body 3.0 x 2.5 mm, inc. leads (LxW max); ComponentLink1Description: Manufacturer Link; ComponentLink1URL: http://www.semiconductors.philips.com/; ComponentLink2Description: Datasheet; ComponentLink2URL: http://www.semiconductors.philips.com/acrobat/datasheets/PMBTA06_5.pdf
footprint SOT23 (SOT-23; 3 Leads; Body 3.0 x 2.5 mm, inc. leads (LxW max))
simulation model PMBTA06 (SUBCKT)
signal-integrity model PMBTA06
pins: 1 B, 2 E, 3 C

## PMBTA42
designator Q?
NPN High-voltage Transistor; Published: 17-Sep-2003; DatasheetVersion: 22-Apr-1999; PackageVersion: May-1999; PackageReference: SOT23; Publisher: Altium Limited; PackageDescription: SOT-23; 3 Leads; Body 3.0 x 2.5 mm, inc. leads (LxW max); ComponentLink1Description: Manufacturer Link; ComponentLink1URL: http://www.semiconductors.philips.com/; ComponentLink2Description: Datasheet; ComponentLink2URL: http://www.semiconductors.philips.com/acrobat/datasheets/PMBTA42_4.pdf
footprint SOT23 (SOT-23; 3 Leads; Body 3.0 x 2.5 mm, inc. leads (LxW max))
simulation model PMBTA42 (SUBCKT)
signal-integrity model PMBTA42
pins: 1 B, 2 E, 3 C

## PMBTA92
designator Q?
PNP High-voltage Transistor; Published: 17-Sep-2003; DatasheetVersion: 13-Apr-1999; PackageVersion: May-1999; PackageReference: SOT23; Publisher: Altium Limited; PackageDescription: SOT-23; 3 Leads; Body 3.0 x 2.5 mm, inc. leads (LxW max); ComponentLink1Description: Manufacturer Link; ComponentLink1URL: http://www.semiconductors.philips.com/; ComponentLink2Description: Datasheet; ComponentLink2URL: http://www.semiconductors.philips.com/acrobat/datasheets/PMBTA92_5.pdf
footprint SOT23 (SOT-23; 3 Leads; Body 3.0 x 2.5 mm, inc. leads (LxW max))
simulation model PMBTA92 (SUBCKT)
signal-integrity model PMBTA92
pins: 1 B, 2 E, 3 C

## PMMT491A
designator Q?
NPN BISS Transistor; Published: 17-Sep-2003; DatasheetVersion: 11-Jun-2001; PackageVersion: May-1999; PackageReference: SOT23; Publisher: Altium Limited; PackageDescription: SOT-23; 3 Leads; Body 3.0 x 2.5 mm, inc. leads (LxW max); ComponentLink1Description: Manufacturer Link; ComponentLink1URL: http://www.semiconductors.philips.com/; ComponentLink2Description: Datasheet; ComponentLink2URL: http://www.semiconductors.philips.com/acrobat/datasheets/PMMT491A_5.pdf
footprint SOT23 (SOT-23; 3 Leads; Body 3.0 x 2.5 mm, inc. leads (LxW max))
simulation model PMMT491A (SUBCKT)
signal-integrity model PMMT491A
pins: 1 B, 2 E, 3 C

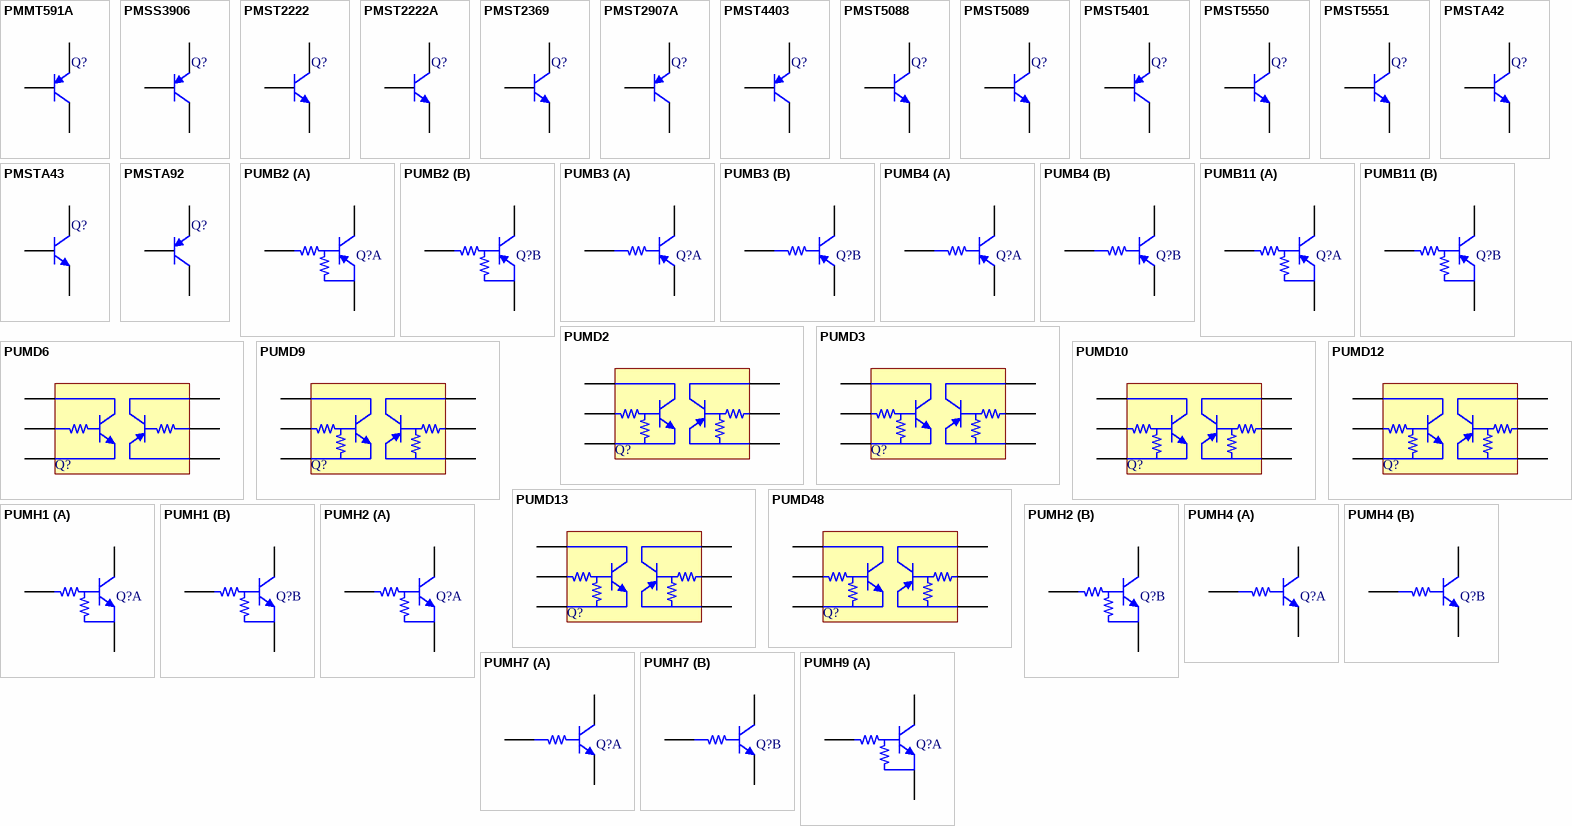
[diagram p7: symbols PMMT591A to PUMH9]

## PMMT591A
designator Q?
PNP BISS Transistor; Published: 17-Sep-2003; DatasheetVersion: 11-Jun-2001; PackageVersion: May-1999; PackageReference: SOT23; Publisher: Altium Limited; PackageDescription: SOT-23; 3 Leads; Body 3.0 x 2.5 mm, inc. leads (LxW max); ComponentLink1Description: Manufacturer Link; ComponentLink1URL: http://www.semiconductors.philips.com/; ComponentLink2Description: Datasheet; ComponentLink2URL: http://www.semiconductors.philips.com/acrobat/datasheets/PMMT591A_5.pdf
footprint SOT23 (SOT-23; 3 Leads; Body 3.0 x 2.5 mm, inc. leads (LxW max))
simulation model PMMT591A (SUBCKT)
signal-integrity model PMMT591A
pins: 1 B, 2 E, 3 C

## PMSS3906
designator Q?
PNP Switching Transistor; Published: 17-Sep-2003; DatasheetVersion: 22-Apr-1999; PackageVersion: Apr-1999; PackageReference: SOT323; Publisher: Altium Limited; PackageDescription: SOT-323/SC-70; 3 Leads; Body 2.2 x 2.2 mm, inc. leads (LxW max); ComponentLink1Description: Manufacturer Link; ComponentLink1URL: http://www.semiconductors.philips.com/; ComponentLink2Description: Datasheet; ComponentLink2URL: http://www.semiconductors.philips.com/acrobat/datasheets/PMSS3906_4.pdf
footprint SOT323 (SOT-323/SC-70; 3 Leads; Body 2.2 x 2.2 mm, inc. leads (LxW max))
simulation model QPMSS3906 (PNP)
signal-integrity model PMSS3906
pins: 1 B, 2 E, 3 C

## PMST2222
designator Q?
NPN Switching Transistor; Published: 17-Sep-2003; DatasheetVersion: 22-Apr-1999; PackageVersion: Apr-1999; PackageReference: SOT323; Publisher: Altium Limited; PackageDescription: SOT-323/SC-70; 3 Leads; Body 2.2 x 2.2 mm, inc. leads (LxW max); ComponentLink1Description: Manufacturer Link; ComponentLink1URL: http://www.semiconductors.philips.com/; ComponentLink2Description: Datasheet; ComponentLink2URL: http://www.semiconductors.philips.com/acrobat/datasheets/PMST2222_2222A_2.pdf
footprint SOT323 (SOT-323/SC-70; 3 Leads; Body 2.2 x 2.2 mm, inc. leads (LxW max))
simulation model QPMST2222 (NPN)
signal-integrity model PMST2222
pins: 1 B, 2 E, 3 C

## PMST2222A
designator Q?
NPN Switching Transistor; Published: 17-Sep-2003; DatasheetVersion: 22-Apr-1999; PackageVersion: Apr-1999; PackageReference: SOT323; Publisher: Altium Limited; PackageDescription: SOT-323/SC-70; 3 Leads; Body 2.2 x 2.2 mm, inc. leads (LxW max); ComponentLink1Description: Manufacturer Link; ComponentLink1URL: http://www.semiconductors.philips.com/; ComponentLink2Description: Datasheet; ComponentLink2URL: http://www.semiconductors.philips.com/acrobat/datasheets/PMST2222_2222A_2.pdf
footprint SOT323 (SOT-323/SC-70; 3 Leads; Body 2.2 x 2.2 mm, inc. leads (LxW max))
simulation model QPMST2222A (NPN)
signal-integrity model PMST2222A
pins: 1 B, 2 E, 3 C

## PMST2369
designator Q?
NPN Switching Transistor; Published: 17-Sep-2003; DatasheetVersion: 22-Apr-1999; PackageVersion: Apr-1999; PackageReference: SOT323; Publisher: Altium Limited; PackageDescription: SOT-323/SC-70; 3 Leads; Body 2.2 x 2.2 mm, inc. leads (LxW max); ComponentLink1Description: Manufacturer Link; ComponentLink1URL: http://www.semiconductors.philips.com/; ComponentLink2Description: Datasheet; ComponentLink2URL: http://www.semiconductors.philips.com/acrobat/datasheets/PMST2369_3.pdf
footprint SOT323 (SOT-323/SC-70; 3 Leads; Body 2.2 x 2.2 mm, inc. leads (LxW max))
simulation model QPMST2369 (NPN)
signal-integrity model PMST2369
pins: 1 B, 2 E, 3 C

## PMST2907A
designator Q?
PNP Switching Transistor; Published: 17-Sep-2003; DatasheetVersion: 19-Nov-2001; PackageVersion: Apr-1999; PackageReference: SOT323; Publisher: Altium Limited; PackageDescription: SOT-323/SC-70; 3 Leads; Body 2.2 x 2.2 mm, inc. leads (LxW max); ComponentLink1Description: Manufacturer Link; ComponentLink1URL: http://www.semiconductors.philips.com/; ComponentLink2Description: Datasheet; ComponentLink2URL: http://www.semiconductors.philips.com/acrobat/datasheets/PMST2907A_3.pdf
footprint SOT323 (SOT-323/SC-70; 3 Leads; Body 2.2 x 2.2 mm, inc. leads (LxW max))
simulation model QPMST2907A (PNP)
signal-integrity model PMST2907A
pins: 1 B, 2 E, 3 C

## PMST4403
designator Q?
PNP Switching Transistor; Published: 17-Sep-2003; DatasheetVersion: 22-Apr-1999; PackageVersion: Apr-1999; PackageReference: SOT323; Publisher: Altium Limited; PackageDescription: SOT-323/SC-70; 3 Leads; Body 2.2 x 2.2 mm, inc. leads (LxW max); ComponentLink1Description: Manufacturer Link; ComponentLink1URL: http://www.semiconductors.philips.com/; ComponentLink2Description: Datasheet; ComponentLink2URL: http://www.semiconductors.philips.com/acrobat/datasheets/PMST4403_3.pdf
footprint SOT323 (SOT-323/SC-70; 3 Leads; Body 2.2 x 2.2 mm, inc. leads (LxW max))
simulation model QPMST4403 (PNP)
signal-integrity model PMST4403
pins: 1 B, 2 E, 3 C

## PMST5088
designator Q?
NPN General-purpose Transistor; Published: 17-Sep-2003; DatasheetVersion: 22-Apr-1999; PackageVersion: Apr-1999; PackageReference: SOT323; Publisher: Altium Limited; PackageDescription: SOT-323/SC-70; 3 Leads; Body 2.2 x 2.2 mm, inc. leads (LxW max); ComponentLink1Description: Manufacturer Link; ComponentLink1URL: http://www.semiconductors.philips.com/; ComponentLink2Description: Datasheet; ComponentLink2URL: http://www.semiconductors.philips.com/acrobat/datasheets/PMST5088_5089_3.pdf
footprint SOT323 (SOT-323/SC-70; 3 Leads; Body 2.2 x 2.2 mm, inc. leads (LxW max))
simulation model QPMST5088 (NPN)
signal-integrity model PMST5088
pins: 1 B, 2 E, 3 C

## PMST5089
designator Q?
NPN General-purpose Transistor; Published: 17-Sep-2003; DatasheetVersion: 22-Apr-1999; PackageVersion: Apr-1999; PackageReference: SOT323; Publisher: Altium Limited; PackageDescription: SOT-323/SC-70; 3 Leads; Body 2.2 x 2.2 mm, inc. leads (LxW max); ComponentLink1Description: Manufacturer Link; ComponentLink1URL: http://www.semiconductors.philips.com/; ComponentLink2Description: Datasheet; ComponentLink2URL: http://www.semiconductors.philips.com/acrobat/datasheets/PMST5088_5089_3.pdf
footprint SOT323 (SOT-323/SC-70; 3 Leads; Body 2.2 x 2.2 mm, inc. leads (LxW max))
simulation model QPMST5089 (NPN)
signal-integrity model PMST5089
pins: 1 B, 2 E, 3 C

## PMST5401
designator Q?
PNP High-voltage Transistor; Published: 17-Sep-2003; DatasheetVersion: 29-Apr-1999; PackageVersion: Apr-1999; PackageReference: SOT323; Publisher: Altium Limited; PackageDescription: SOT-323/SC-70; 3 Leads; Body 2.2 x 2.2 mm, inc. leads (LxW max); ComponentLink1Description: Manufacturer Link; ComponentLink1URL: http://www.semiconductors.philips.com/; ComponentLink2Description: Datasheet; ComponentLink2URL: http://www.semiconductors.philips.com/acrobat/datasheets/PMST5401_3.pdf
footprint SOT323 (SOT-323/SC-70; 3 Leads; Body 2.2 x 2.2 mm, inc. leads (LxW max))
simulation model QPMST5401 (PNP)
signal-integrity model PMST5401
pins: 1 B, 2 E, 3 C

## PMST5550
designator Q?
NPN High-voltage Transistor; Published: 17-Sep-2003; DatasheetVersion: 29-Apr-1999; PackageVersion: Apr-1999; PackageReference: SOT323; Publisher: Altium Limited; PackageDescription: SOT-323/SC-70; 3 Leads; Body 2.2 x 2.2 mm, inc. leads (LxW max); ComponentLink1Description: Manufacturer Link; ComponentLink1URL: http://www.semiconductors.philips.com/; ComponentLink2Description: Datasheet; ComponentLink2URL: http://www.semiconductors.philips.com/acrobat/datasheets/PMST5550_5551_4.pdf
footprint SOT323 (SOT-323/SC-70; 3 Leads; Body 2.2 x 2.2 mm, inc. leads (LxW max))
simulation model QPMST5550 (NPN)
signal-integrity model PMST5550
pins: 1 B, 2 E, 3 C

## PMST5551
designator Q?
NPN High-voltage Transistor; Published: 17-Sep-2003; DatasheetVersion: 29-Apr-1999; PackageVersion: Apr-1999; PackageReference: SOT323; Publisher: Altium Limited; PackageDescription: SOT-323/SC-70; 3 Leads; Body 2.2 x 2.2 mm, inc. leads (LxW max); ComponentLink1Description: Manufacturer Link; ComponentLink1URL: http://www.semiconductors.philips.com/; ComponentLink2Description: Datasheet; ComponentLink2URL: http://www.semiconductors.philips.com/acrobat/datasheets/PMST5550_5551_4.pdf
footprint SOT323 (SOT-323/SC-70; 3 Leads; Body 2.2 x 2.2 mm, inc. leads (LxW max))
simulation model QPMST5551 (NPN)
signal-integrity model PMST5551
pins: 1 B, 2 E, 3 C

## PMSTA42
designator Q?
NPN High-voltage Transistor; Published: 17-Sep-2003; DatasheetVersion: 21-May-1999; PackageVersion: Apr-1999; PackageReference: SOT323; Publisher: Altium Limited; PackageDescription: SOT-323/SC-70; 3 Leads; Body 2.2 x 2.2 mm, inc. leads (LxW max); ComponentLink1Description: Manufacturer Link; ComponentLink1URL: http://www.semiconductors.philips.com/; ComponentLink2Description: Datasheet; ComponentLink2URL: http://www.semiconductors.philips.com/acrobat/datasheets/PMSTA42_43_2.pdf
footprint SOT323 (SOT-323/SC-70; 3 Leads; Body 2.2 x 2.2 mm, inc. leads (LxW max))
simulation model PMSTA42 (SUBCKT)
signal-integrity model PMSTA42
pins: 1 B, 2 E, 3 C

## PMSTA43
designator Q?
NPN High-voltage Transistor; Published: 17-Sep-2003; DatasheetVersion: 21-May-1999; PackageVersion: Apr-1999; PackageReference: SOT323; Publisher: Altium Limited; PackageDescription: SOT-323/SC-70; 3 Leads; Body 2.2 x 2.2 mm, inc. leads (LxW max); ComponentLink1Description: Manufacturer Link; ComponentLink1URL: http://www.semiconductors.philips.com/; ComponentLink2Description: Datasheet; ComponentLink2URL: http://www.semiconductors.philips.com/acrobat/datasheets/PMSTA42_43_2.pdf
footprint SOT323 (SOT-323/SC-70; 3 Leads; Body 2.2 x 2.2 mm, inc. leads (LxW max))
signal-integrity model PMSTA43
pins: 1 B, 2 E, 3 C